# Altium footprint library 691328310006.PcbLib: 1 footprints
Each footprint in its own frame and in the unit in brackets; x right, y up, seen from the top. Pads: shape width x height; smd on the part's side, far side on the other; paste and mask are expansions set on the pad; w line width, h text height; cw(c..) or ccw(c..) is an arc to the next point about the centre after c.
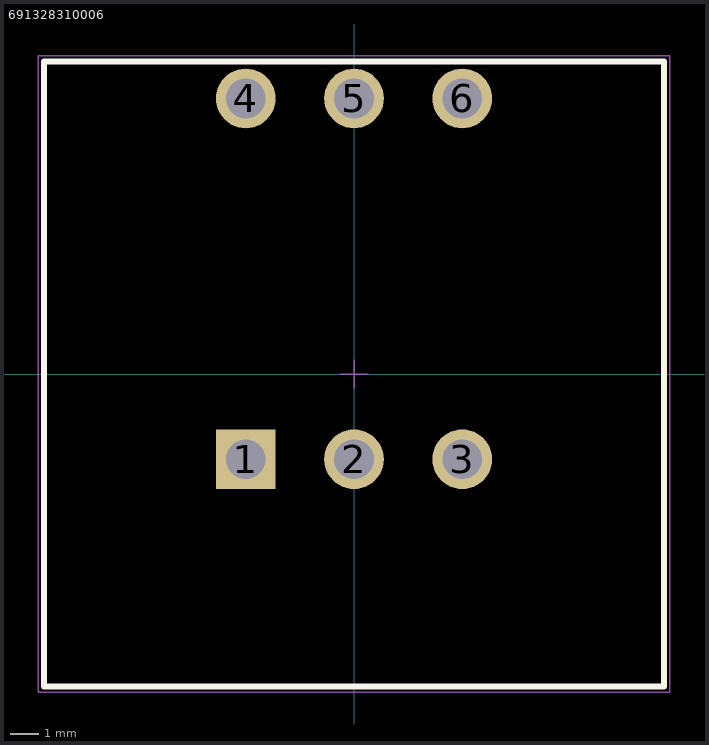
[diagram p0: the footprint, top view; thin cyan lines are the x and y axes]

## 691328310006 [mm]
pads (6):
  rect 2.1x2.1 hole 1.4: 1(-3.81,-3)
  round 2.1 hole 1.4: 2(0,-3) 3(3.81,-3) 4(-3.81,9.7) 5(0,9.7) 6(3.81,9.7)
Top Overlay:
  lines w0.2: -10.91,-11 10.91,-11 10.91,11 -10.91,11 -10.91,-11
Top Assembly:
  lines w0.05: -0.5,0 0.5,0 ; 0,-0.5 0,0.5
  lines w0.1: -10.91,-11 -10.91,11 10.91,11 10.91,-11 -10.91,-11
Top Courtyard:
  lines w0.05: -11.11,-11.2 -11.11,11.2 11.11,11.2 11.11,-11.2 -11.11,-11.2
3D body "691328310006.stp": height 22.85, standoff -3.35, extent -10.91,-11 10.91,11